# Altium schematic symbol library teslaeggspecificparts.SchLib: 28 symbols
Pins are listed as number, name and electrical type; pins without a type are passive.

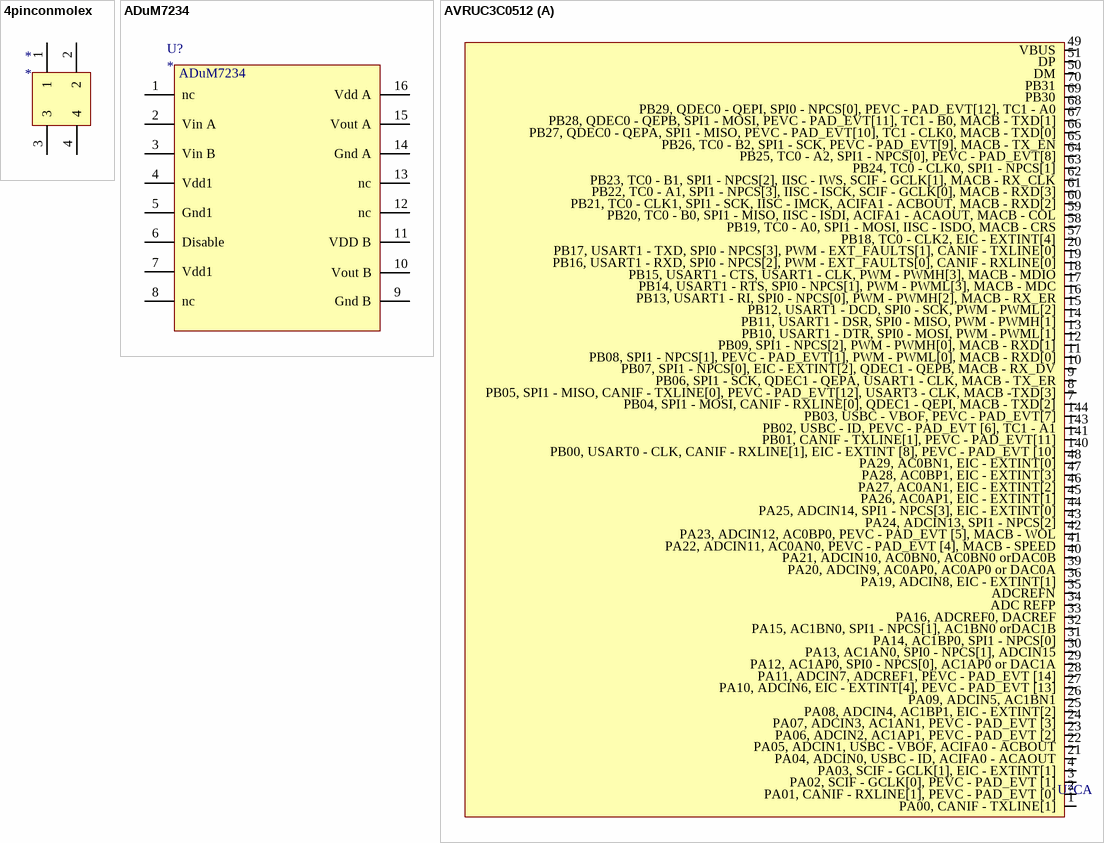
[diagram p0: symbols 4pinconmolex to AVRUC3C0512]

## 4pinconmolex
designator *
Mouser: 538-172065-0004
footprint MOLEXmegafit2x2pin
pins: 1, 2, 3, 4

## ADuM7234
designator U?
ADuM7234 dual isolated gate driver; Mouser: 584-ADUM7234BRZ
footprint SOIC127P600-16N (SOIC, 16-Leads, Body 9.9x3.9mm, Pitch 1.27mm, IPC Medium Density)
pins: 1 nc "no connect", 2 Vin A, 3 Vin B, 4 Vdd1, 5 Gnd1, 6 Disable, 7 Vdd1, 8 nc, 9 Gnd B, 10 Vout B, 11 VDD B, 12 nc, 13 nc, 14 Gnd A, 15 Vout A, 16 Vdd A

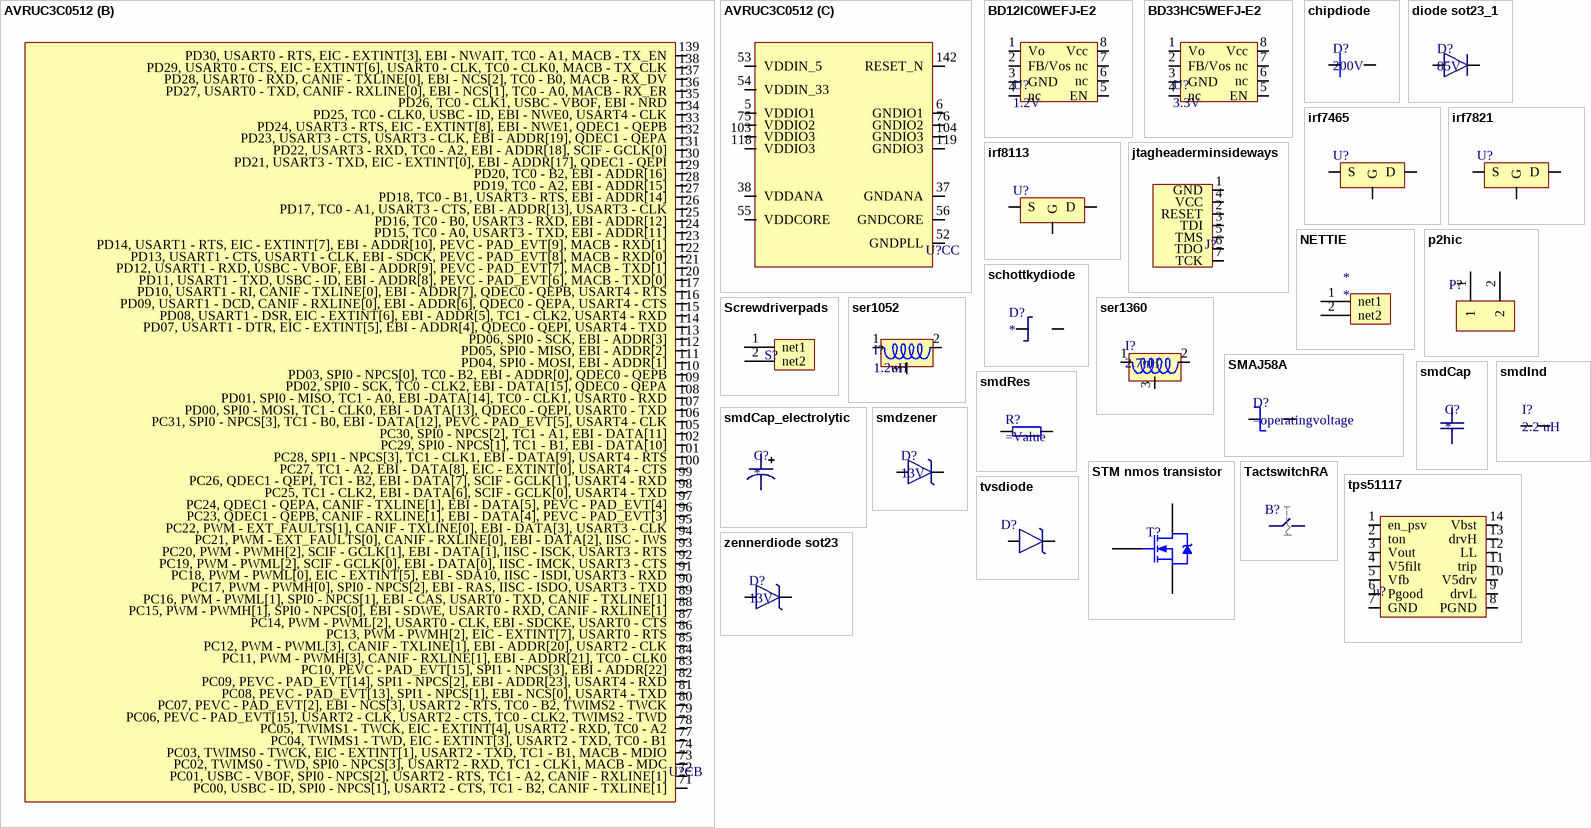
[diagram p1: symbols AVRUC3C0512 to zennerdiode sot23]

## AVRUC3C0512
designator U?C, comment AT32UC3C0512  (value not drawn)
144 pin model of the AT32UC3C0512; mfg: Atmel; model: AT32UC3C0512; pins: 144; mouser: 556-AT32UC3C0512CALT; farnell: *
footprint SQFP50P2200X2200X170-144N (SQFP, 144-Leads, Body 22,1x22,1mm (max), Pitch 0,50mm, IPC Medium Density)
part A pins: 1 PA00, CANIF - TXLINE[1], 2 PA01, CANIF - RXLINE[1], PEVC - PAD_EVT [0], 3 PA02, SCIF - GCLK[0], PEVC - PAD_EVT [1], 4 PA03, SCIF - GCLK[1], EIC - EXTINT[1], 7 PB04, SPI1 - MOSI, CANIF - RXLINE[0], QDEC1 - QEPI, MACB - TXD[2], 8 PB05, SPI1 - MISO, CANIF - TXLINE[0], PEVC - PAD_EVT[12], USART3 - CLK, MACB -TXD[3], 9 PB06, SPI1 - SCK, QDEC1 - QEPA, USART1 - CLK, MACB - TX_ER, 10 PB07, SPI1 - NPCS[0], EIC - EXTINT[2], QDEC1 - QEPB, MACB - RX_DV, 11 PB08, SPI1 - NPCS[1], PEVC - PAD_EVT[1], PWM - PWML[0], MACB - RXD[0], 12 PB09, SPI1 - NPCS[2], PWM - PWMH[0], MACB - RXD[1], 13 PB10, USART1 - DTR, SPI0 - MOSI, PWM - PWML[1], 14 PB11, USART1 - DSR, SPI0 - MISO, PWM - PWMH[1], 15 PB12, USART1 - DCD, SPI0 - SCK, PWM - PWML[2], 16 PB13, USART1 - RI, SPI0 - NPCS[0], PWM - PWMH[2], MACB - RX_ER, 17 PB14, USART1 - RTS, SPI0 - NPCS[1], PWM - PWML[3], MACB - MDC, 18 PB15, USART1 - CTS, USART1 - CLK, PWM - PWMH[3], MACB - MDIO, 19 PB16, USART1 - RXD, SPI0 - NPCS[2], PWM - EXT_FAULTS[0], CANIF - RXLINE[0], 20 PB17, USART1 - TXD, SPI0 - NPCS[3], PWM - EXT_FAULTS[1], CANIF - TXLINE[0], 21 PA04, ADCIN0, USBC - ID, ACIFA0 - ACAOUT, 22 PA05, ADCIN1, USBC - VBOF, ACIFA0 - ACBOUT, 23 PA06, ADCIN2, AC1AP1, PEVC - PAD_EVT [2], 24 PA07, ADCIN3, AC1AN1, PEVC - PAD_EVT [3], 25 PA08, ADCIN4, AC1BP1, EIC - EXTINT[2], 26 PA09, ADCIN5, AC1BN1, 27 PA10, ADCIN6, EIC - EXTINT[4], PEVC - PAD_EVT [13], 28 PA11, ADCIN7, ADCREF1, PEVC - PAD_EVT [14], 29 PA12, AC1AP0, SPI0 - NPCS[0], AC1AP0 or DAC1A, 30 PA13, AC1AN0, SPI0 - NPCS[1], ADCIN15, 31 PA14, AC1BP0, SPI1 - NPCS[0], 32 PA15, AC1BN0, SPI1 - NPCS[1], AC1BN0 orDAC1B, 33 PA16, ADCREF0, DACREF, 34 ADC REFP, 35 ADCREFN, 36 PA19, ADCIN8, EIC - EXTINT[1], 39 PA20, ADCIN9, AC0AP0, AC0AP0 or DAC0A, 40 PA21, ADCIN10, AC0BN0, AC0BN0 orDAC0B, 41 PA22, ADCIN11, AC0AN0, PEVC - PAD_EVT [4], MACB - SPEED, 42 PA23, ADCIN12, AC0BP0, PEVC - PAD_EVT [5], MACB - WOL, 43 PA24, ADCIN13, SPI1 - NPCS[2], 44 PA25, ADCIN14, SPI1 - NPCS[3], EIC - EXTINT[0], 45 PA26, AC0AP1, EIC - EXTINT[1], 46 PA27, AC0AN1, EIC - EXTINT[2], 47 PA28, AC0BP1, EIC - EXTINT[3], 48 PA29, AC0BN1, EIC - EXTINT[0], 49 VBUS, 50 DM, 51 DP, 57 PB18, TC0 - CLK2, EIC - EXTINT[4], 58 PB19, TC0 - A0, SPI1 - MOSI, IISC - ISDO, MACB - CRS, 59 PB20, TC0 - B0, SPI1 - MISO, IISC - ISDI, ACIFA1 - ACAOUT, MACB - COL, 60 PB21, TC0 - CLK1, SPI1 - SCK, IISC - IMCK, ACIFA1 - ACBOUT, MACB - RXD[2], 61 PB22, TC0 - A1, SPI1 - NPCS[3], IISC - ISCK, SCIF - GCLK[0], MACB - RXD[3], 62 PB23, TC0 - B1, SPI1 - NPCS[2], IISC - IWS, SCIF - GCLK[1], MACB - RX_CLK, 63 PB24, TC0 - CLK0, SPI1 - NPCS[1], 64 PB25, TC0 - A2, SPI1 - NPCS[0], PEVC - PAD_EVT[8], 65 PB26, TC0 - B2, SPI1 - SCK, PEVC - PAD_EVT[9], MACB - TX_EN, 66 PB27, QDEC0 - QEPA, SPI1 - MISO, PEVC - PAD_EVT[10], TC1 - CLK0, MACB - TXD[0], 67 PB28, QDEC0 - QEPB, SPI1 - MOSI, PEVC - PAD_EVT[11], TC1 - B0, MACB - TXD[1], 68 PB29, QDEC0 - QEPI, SPI0 - NPCS[0], PEVC - PAD_EVT[12], TC1 - A0, 69 PB30, 70 PB31, 140 PB00, USART0 - CLK, CANIF - RXLINE[1], EIC - EXTINT [8], PEVC - PAD_EVT [10], 141 PB01, CANIF - TXLINE[1], PEVC - PAD_EVT[11], 143 PB02, USBC - ID, PEVC - PAD_EVT [6], TC1 - A1, 144 PB03, USBC - VBOF, PEVC - PAD_EVT[7]
part B pins: 71 PC00, USBC - ID, SPI0 - NPCS[1], USART2 - CTS, TC1 - B2, CANIF - TXLINE[1], 72 PC01, USBC - VBOF, SPI0 - NPCS[2], USART2 - RTS, TC1 - A2, CANIF - RXLINE[1], 73 PC02, TWIMS0 - TWD, SPI0 - NPCS[3], USART2 - RXD, TC1 - CLK1, MACB - MDC, 74 PC03, TWIMS0 - TWCK, EIC - EXTINT[1], USART2 - TXD, TC1 - B1, MACB - MDIO, 77 PC04, TWIMS1 - TWD, EIC - EXTINT[3], USART2 - TXD, TC0 - B1, 78 PC05, TWIMS1 - TWCK, EIC - EXTINT[4], USART2 - RXD, TC0 - A2, 79 PC06, PEVC - PAD_EVT[15], USART2 - CLK, USART2 - CTS, TC0 - CLK2, TWIMS2 - TWD, 80 PC07, PEVC - PAD_EVT[2], EBI - NCS[3], USART2 - RTS, TC0 - B2, TWIMS2 - TWCK, 81 PC08, PEVC - PAD_EVT[13], SPI1 - NPCS[1], EBI - NCS[0], USART4 - TXD, 82 PC09, PEVC - PAD_EVT[14], SPI1 - NPCS[2], EBI - ADDR[23], USART4 - RXD, 83 PC10, PEVC - PAD_EVT[15], SPI1 - NPCS[3], EBI - ADDR[22], 84 PC11, PWM - PWMH[3], CANIF - RXLINE[1], EBI - ADDR[21], TC0 - CLK0, 85 PC12, PWM - PWML[3], CANIF - TXLINE[1], EBI - ADDR[20], USART2 - CLK, 86 PC13, PWM - PWMH[2], EIC - EXTINT[7], USART0 - RTS, 87 PC14, PWM - PWML[2], USART0 - CLK, EBI - SDCKE, USART0 - CTS, 88 PC15, PWM - PWMH[1], SPI0 - NPCS[0], EBI - SDWE, USART0 - RXD, CANIF - RXLINE[1], 89 PC16, PWM - PWML[1], SPI0 - NPCS[1], EBI - CAS, USART0 - TXD, CANIF - TXLINE[1], 90 PC17, PWM - PWMH[0], SPI0 - NPCS[2], EBI - RAS, IISC - ISDO, USART3 - TXD, 91 PC18, PWM - PWML[0], EIC - EXTINT[5], EBI - SDA10, IISC - ISDI, USART3 - RXD, 92 PC19, PWM - PWML[2], SCIF - GCLK[0], EBI - DATA[0], IISC - IMCK, USART3 - CTS, 93 PC20, PWM - PWMH[2], SCIF - GCLK[1], EBI - DATA[1], IISC - ISCK, USART3 - RTS, 94 PC21, PWM - EXT_FAULTS[0], CANIF - RXLINE[0], EBI - DATA[2], IISC - IWS, 95 PC22, PWM - EXT_FAULTS[1], CANIF - TXLINE[0], EBI - DATA[3], USART3 - CLK, 96 PC23, QDEC1 - QEPB, CANIF - RXLINE[1], EBI - DATA[4], PEVC - PAD_EVT[3], 97 PC24, QDEC1 - QEPA, CANIF - TXLINE[1], EBI - DATA[5], PEVC - PAD_EVT[4], 98 PC25, TC1 - CLK2, EBI - DATA[6], SCIF - GCLK[0], USART4 - TXD, 99 PC26, QDEC1 - QEPI, TC1 - B2, EBI - DATA[7], SCIF - GCLK[1], USART4 - RXD, 100 PC27, TC1 - A2, EBI - DATA[8], EIC - EXTINT[0], USART4 - CTS, 101 PC28, SPI1 - NPCS[3], TC1 - CLK1, EBI - DATA[9], USART4 - RTS, 102 PC29, SPI0 - NPCS[1], TC1 - B1, EBI - DATA[10], 105 PC30, SPI0 - NPCS[2], TC1 - A1, EBI - DATA[11], 106 PC31, SPI0 - NPCS[3], TC1 - B0, EBI - DATA[12], PEVC - PAD_EVT[5], USART4 - CLK, 107 PD00, SPI0 - MOSI, TC1 - CLK0, EBI - DATA[13], QDEC0 - QEPI, USART0 - TXD, 108 PD01, SPI0 - MISO, TC1 - A0, EBI -DATA[14], TC0 - CLK1, USART0 - RXD, 109 PD02, SPI0 - SCK, TC0 - CLK2, EBI - DATA[15], QDEC0 - QEPA, 110 PD03, SPI0 - NPCS[0], TC0 - B2, EBI - ADDR[0], QDEC0 - QEPB, 111 PD04, SPI0 - MOSI, EBI - ADDR[1], 112 PD05, SPI0 - MISO, EBI - ADDR[2], 113 PD06, SPI0 - SCK, EBI - ADDR[3], 114 PD07, USART1 - DTR, EIC - EXTINT[5], EBI - ADDR[4], QDEC0 - QEPI, USART4 - TXD, 115 PD08, USART1 - DSR, EIC - EXTINT[6], EBI - ADDR[5], TC1 - CLK2, USART4 - RXD, 116 PD09, USART1 - DCD, CANIF - RXLINE[0], EBI - ADDR[6], QDEC0 - QEPA, USART4 - CTS, 117 PD10, USART1 - RI, CANIF - TXLINE[0], EBI - ADDR[7], QDEC0 - QEPB, USART4 - RTS, 120 PD11, USART1 - TXD, USBC - ID, EBI - ADDR[8], PEVC - PAD_EVT[6], MACB - TXD[0], 121 PD12, USART1 - RXD, USBC - VBOF, EBI - ADDR[9], PEVC - PAD_EVT[7], MACB - TXD[1], 122 PD13, USART1 - CTS, USART1 - CLK, EBI - SDCK, PEVC - PAD_EVT[8], MACB - RXD[0], 123 PD14, USART1 - RTS, EIC - EXTINT[7], EBI - ADDR[10], PEVC - PAD_EVT[9], MACB - RXD[1], 124 PD15, TC0 - A0, USART3 - TXD, EBI - ADDR[11], 125 PD16, TC0 - B0, USART3 - RXD, EBI - ADDR[12], 126 PD17, TC0 - A1, USART3 - CTS, EBI - ADDR[13], USART3 - CLK, 127 PD18, TC0 - B1, USART3 - RTS, EBI - ADDR[14], 128 PD19, TC0 - A2, EBI - ADDR[15], 129 PD20, TC0 - B2, EBI - ADDR[16], 130 PD21, USART3 - TXD, EIC - EXTINT[0], EBI - ADDR[17], QDEC1 - QEPI, 131 PD22, USART3 - RXD, TC0 - A2, EBI - ADDR[18], SCIF - GCLK[0], 132 PD23, USART3 - CTS, USART3 - CLK, EBI - ADDR[19], QDEC1 - QEPA, 133 PD24, USART3 - RTS, EIC - EXTINT[8], EBI - NWE1, QDEC1 - QEPB, 134 PD25, TC0 - CLK0, USBC - ID, EBI - NWE0, USART4 - CLK, 135 PD26, TC0 - CLK1, USBC - VBOF, EBI - NRD, 136 PD27, USART0 - TXD, CANIF - RXLINE[0], EBI - NCS[1], TC0 - A0, MACB - RX_ER, 137 PD28, USART0 - RXD, CANIF - TXLINE[0], EBI - NCS[2], TC0 - B0, MACB - RX_DV, 138 PD29, USART0 - CTS, EIC - EXTINT[6], USART0 - CLK, TC0 - CLK0, MACB - TX_CLK, 139 PD30, USART0 - RTS, EIC - EXTINT[3], EBI - NWAIT, TC0 - A1, MACB - TX_EN
part C pins: 5 VDDIO1, 6 GNDIO1, 37 GNDANA, 38 VDDANA, 52 GNDPLL, 53 VDDIN_5, 54 VDDIN_33, 55 VDDCORE, 56 GNDCORE, 75 VDDIO2, 76 GNDIO2, 103 VDDIO3, 104 GNDIO3, 118 VDDIO3, 119 GNDIO3, 142 RESET_N

## BD12IC0WEFJ-E2
designator U?, comment 1.2V
LDO Voltage Controllers LDO Reg Pos 1.2V 1A; mfg: ROHM; mouser: 755-BD12IC0WEFJ-E2
footprint TSOP127P600X100_HS-8N_(HTSOP-J8) (TSOP, 8-Leads, Body 5,0x4,0mm (max), Pitch 1,27mm, IPC Medium Density)
pins: 1 Vo, 2 FB/Vos, 3 GND, 4 nc, 5 EN, 6 nc, 7 nc, 8 Vcc

## BD33HC5WEFJ-E2
designator U?, comment 3.3V
LDO Voltage Controllers LDO Reg Pos 3.3V 1A; mfg: ROHM; mouser: 755-BD33HC5WEFJ-E2
footprint TSOP127P600X100_HS-8N_(HTSOP-J8) (TSOP, 8-Leads, Body 5,0x4,0mm (max), Pitch 1,27mm, IPC Medium Density)
pins: 1 Vo, 2 FB/Vos, 3 GND, 4 nc, 5 EN, 6 nc, 7 nc, 8 Vcc

## chipdiode
designator D?, comment 200V
chip diode; Icontinous: 2A; Rv: 200V; mouser: 863-MURA120T3G
footprint SMA_CASE_403D-02F
footprint SMA (sma diode)
footprint SMC_DO214AB (diode package comchip SMC)
pins: 1 c, 2 a

## diode sot23_1
designator D?, comment 85V
smddiode 1a-  ->|--  3c , 2=nc; cathode: pin 3; Value: 85V; mouser: *
footprint SOT95P240-3N (SOT23, 3-Leads, Body 2.9x1.3mm, Pitch 0.95mm, Lead Span 2.4mm, IPC Medium Density)
pins: 1 19, 2 hidden, 3 c

## irf7465
designator U?  (value not drawn)
nmos high power; mfg: International Rectifier; mouser: 942-IRF7821TRPBF
footprint sspecial SOIC127P600X175-8N for irf (SOIC, 8-Leads, Body 5,0x4,0mm (max), Pitch 1,27mm, IPC Medium Density)
pins: 1 S, 4 G, 5 D

## irf7821
designator U?  (value not drawn)
nmos high power; mfg: International Rectifier; mouser: 942-IRF7821TRPBF
footprint sspecial SOIC127P600X175-8N for irf (SOIC, 8-Leads, Body 5,0x4,0mm (max), Pitch 1,27mm, IPC Medium Density)
pins: 1 S, 4 G, 5 D

## irf8113
designator U?  (value not drawn)
nmos high power; mfg: International Rectifier; mouser: 942-IRF8113TRPBF
footprint sspecial SOIC127P600X175-8N for irf (SOIC, 8-Leads, Body 5,0x4,0mm (max), Pitch 1,27mm, IPC Medium Density)
pins: 1 S, 4 G, 5 D

## jtagheaderminsideways
designator J?  (value not drawn)
smallest possible JTAG header (only for AVR); mouser: 517-951110-8622-AR
footprint HeaderPCBsideways (solder a straight header sideways onto thes pads at the edge of the pcb)
pins: 1 GND, 2 RESET, 3 TDI, 4 VCC, 5 TMS, 6 TDO, 7 TCK

## NETTIE
designator *  (net tie, no BOM)
connects 2 nets, connect both terminals or shit goes down
footprint NETTIE (use to tie nets together)
pins: 1 net1, 2 net2

## p2hic
designator P?  (value not drawn)
2 terminal 5mm pitch screw terminal; manufacturer: phoenix contact; pitch: 6.53mm; optimal wire size: 2.5mm² (awg 14-22); nominal current: 32A; nominal voltage: 500V; Mouser: 651-1714955
footprint pin2pitch6.35mmL (6.35mm pitch screw terminal hi current)
pins: 1, 2

## schottkydiode
designator D?
schottkydiode fill in reversevoltage and package; reversevoltage: *; mouser: *
footprint SMA_CASE_403D-02F (diode sma)
footprint SMC_DO214AB (diode package comchip SMC)
footprint SMA (sma diode)
pins: 1 c, 2 a

## Screwdriverpads
designator S?  (value not drawn)
empty pads allowing a screwdriver to connect both nets; soldering instruction: filling empty pads with solder somtimes improves connective properties is cleaned to remove flux
footprint screwdriverpads (pads that allow a screwdriver to pull a pin low/high)
pins: 1 net1, 2 net2

## ser1052
designator I?, comment 1.2uH
coilcraft smd inductor ser1360 series; Value: 1.2uH; mouser: 994-SER1052-122MLB
footprint SER1052 (coilcraft smd inductor series 1052)
pins: 1 62, 2 63, 3 nc

## ser1360
designator I?, comment 2.7uH
coilcraft smd inductor ser1360 series; Value: 2.7uH; mouser: 994-SER1360-272KLD
footprint ser1360 (coilcraft 3pins inductor)
pins: 1 62, 2 63, 3 nc

## SMAJ58A
designator D?
TVS diode 58V; mouser: 576-SMAJ58A; =operatingvoltage: 58V
footprint SMA (sma diode)
pins: 1 C, 2 A

## smdCap
designator C?
capacitor fill in value look for footprint in ipc database; Value: *; mouser: *; farnell: *; footprint: chip capacitor in genral pcbfootprints library; ipc hint: uses metric codes but verify
footprint CAPC1210L (Chip Capacitor, Body 1.2x1.0mm, IPC High Density)
footprint CAPC3225L (Chip Capacitor, Body 3.2x2.5mm, IPC High Density)
footprint CAPMP7342X28N D2E (Molded Capacitor, 2-Leads, Body 7,3x4,2mm, IPC Medium Density)
footprint CAPMP7342X28N D3L (Molded Capacitor, 2-Leads, Body 7,3x4,2mm, IPC Medium Density)
pins: 1, 2

## smdCap_electrolytic
designator C?
capacitor fill in value look for footprint in ipc database; Value: *; mouser: *; farnell: *; footprint: chip capacitor in genral pcbfootprints library; ipc hint: uses metric codes but verify
footprint CAPAE F (panasonic surface mount electrolytic size F)
footprint CAPAE_ B (panasonic surface mount electrolytic size B)
pins: 1, 2

## smdInd
designator I?, comment 2.2 uH
smd inductor fill in value look for print in lib; lib comment: sizes are in metric (usually => check); Value: 2.2 uH; mouser: 810-MLZ1608N2R2L; farnell: *; library: *
footprint INDC1608AL (Chip Inductor, Body 1.6x0.8mm, IPC High Density)
footprint RLF7045 (tdk inductor)
footprint SRP4020TA (bourns inductor series SRP4020TA)
pins: 1, 2

## smdRes
designator R?
smd resistor add value footprint and code; farnell: *; mouser: *; Value: =Value; footprint: chipresX in IPC collection
footprint RESC2012L (Chip Resistor, Body 2.0x1.3mm, IPC High Density)
footprint RESC1005L (Chip Resistor, Body 1.1x0.5mm, IPC High Density)
pins: 1, 2

## smdzener
designator D?, comment 13V
Zener; Value: 13V
footprint SOD123 (vishay diode sod123)
pins: 1 c, 2 a

## STM nmos transistor
designator T?  (value not drawn)
MOSFET N-CH 600V 0.078Ohm typ. 34A MDmesh II; mfg partnumber: STP40N60M2; Mouser: 511-STP40N60M2; heatsink mouser partnumber: 567-272-AB
footprint TO220
footprint T0220 heatsinked (TO22O with wakefield 657-20ABP heatsink)
pins: 1 G, 2 D, 3 S

## TactswitchRA
designator B?  (value not drawn)
tactile switch right angle; button length: 5.85mm; mouser: 506-FSMRA3JH
footprint Switch_FSMRA3JH (Pushbutton Switch right angle smd 5.85mm long)
pins: 1, 2

## tps51117
designator u?  (value not drawn)
switching psu external switch 10A 0.75-5.5V output; mfg: TI; mouser: 595-TPS51117PWR
footprint PW014 (Shrink Small Outline; 14 Leads; Body Width 4.4 mm; Pitch 0.65 mm)
pins: 1 en_psv, 2 ton, 3 Vout, 4 V5filt, 5 Vfb, 6 Pgood, 7 GND, 8 PGND, 9 drvL, 10 V5drv, 11 trip, 12 LL, 13 drvH, 14 Vbst

## tvsdiode
designator D?, comment tvs diode  (value not drawn)
tvs diode fast 100A 160V; mfg: Vishay; Mouser: 625-P6SMB160A-E3/52
footprint DSO-C2/X2.3 (DO-214-AA/SMB; 2 C-Bend Leads; Body 5.3 x 3.6 mm, inc. leads (LxW))
pins: 1, 2

## zennerdiode sot23
designator D?, comment 13V
Zener; Value: 13V
footprint SOT95P240-3N (SOT23, 3-Leads, Body 2.9x1.3mm, Pitch 0.95mm, Lead Span 2.4mm, IPC Medium Density)
pins: 1 19, 2 hidden, 3 c